# Altium schematic symbol library RF_Module.SchLib: 84 symbols (part 2 of 2)
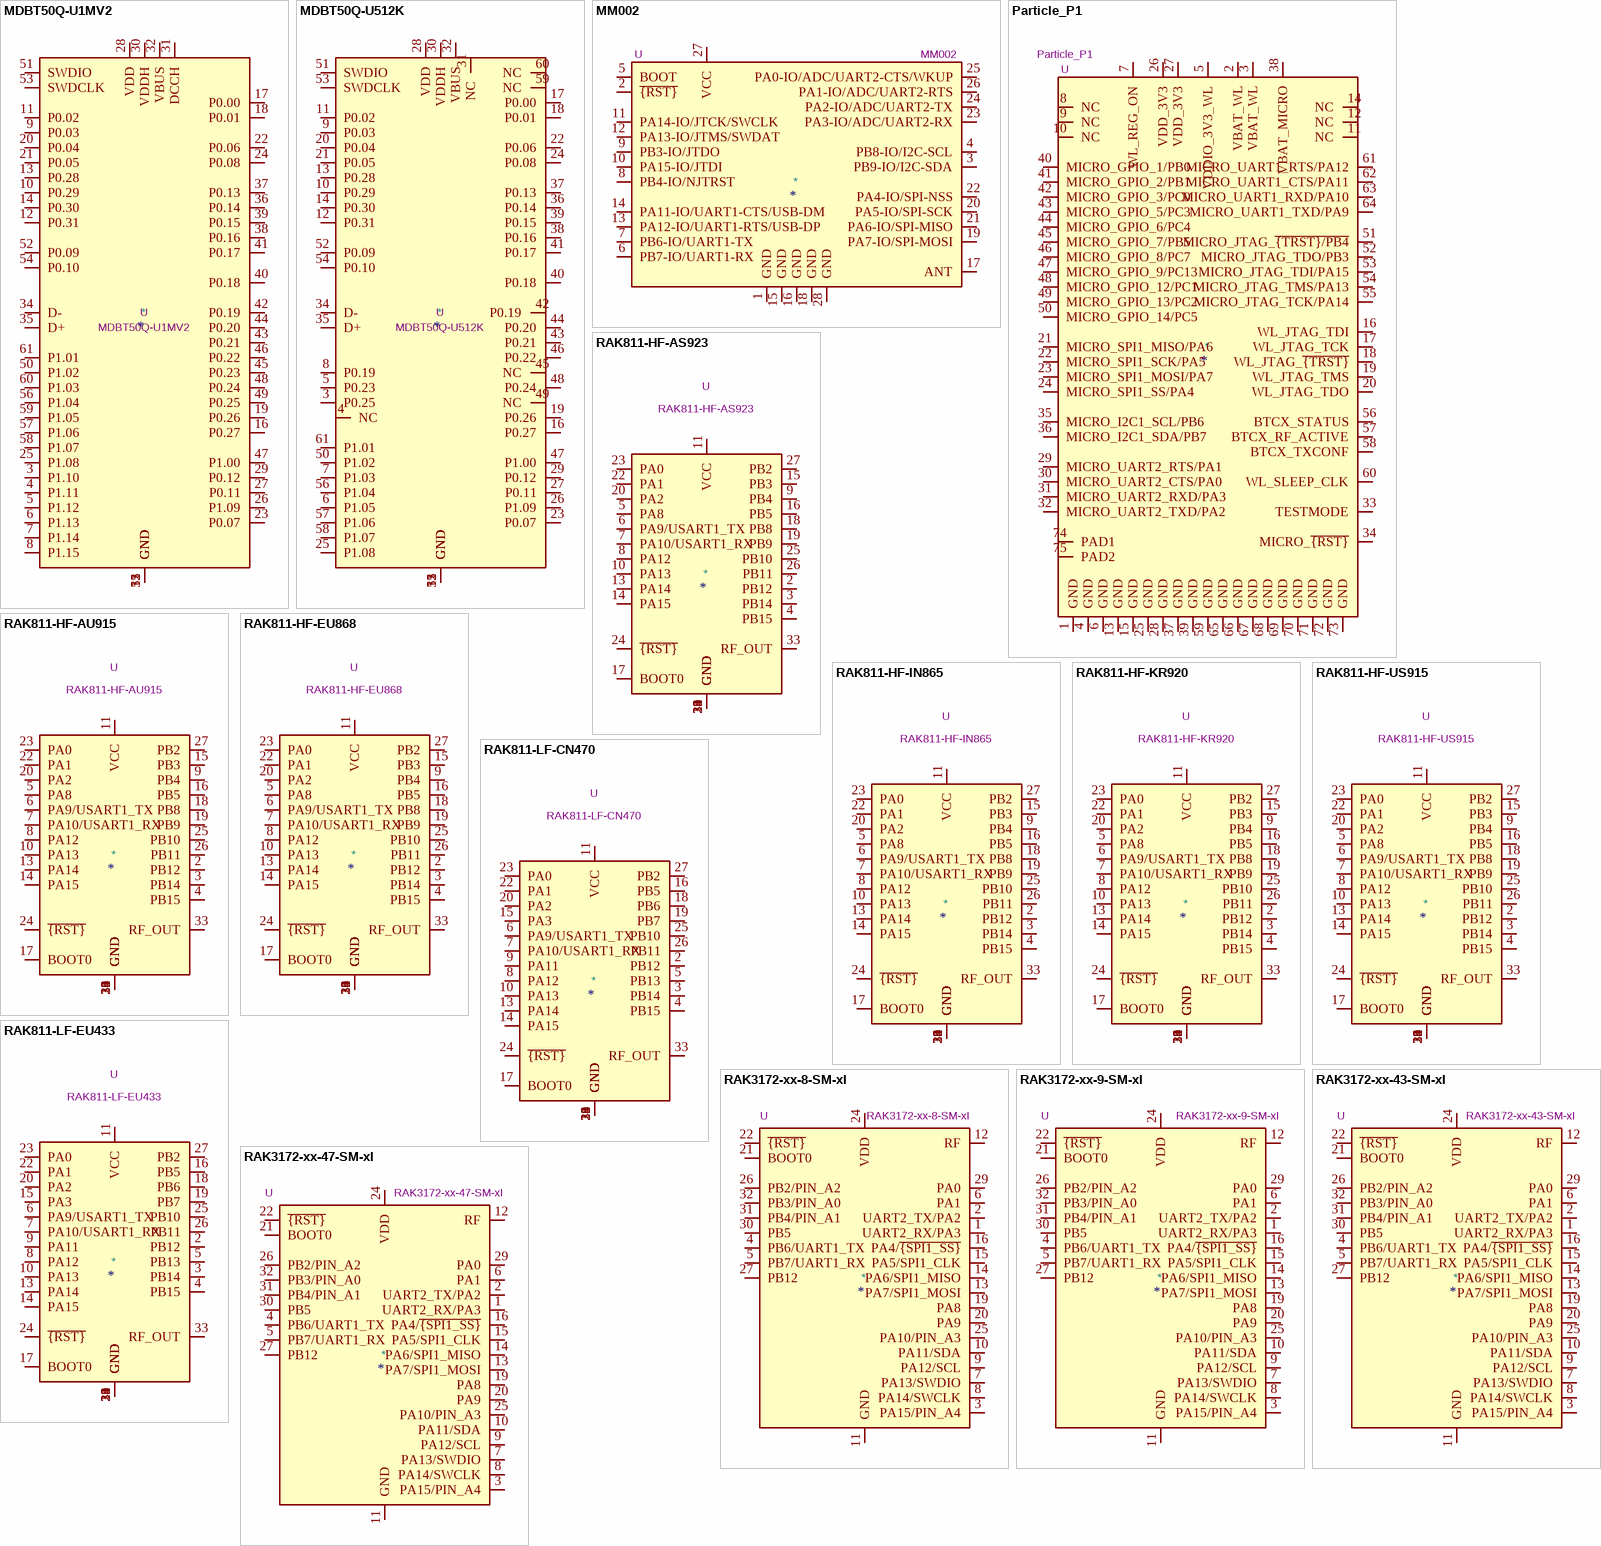
[diagram p5: symbols MDBT50Q-U1MV2 to RAK3172-xx-47-SM-xI]

## RAK3172-xx-43-SM-xI
designator *  value RAK3172-xx-43-SM-xI  Reference: U
LoRa Module, STM32WLE5, EU433, RAKwireless; ki_keywords: IoT LoRa LoRaWAN RF; ki_fp_filters: RAK3172*; Footprint: RF_Module:RAK3172; Datasheet: https://docs.rakwireless.com/product-categories/wisduo/rak3172-module/datasheet; Description_: LoRa Module, STM32WLE5, EU433, RAKwireless
pins: 1 UART2_RX/PA3, 2 UART2_TX/PA2, 3 PA15/PIN_A4, 4 PB6/UART1_TX, 5 PB7/UART1_RX, 6 PA1, 7 PA13/SWDIO, 8 PA14/SWCLK, 9 PA12/SCL, 10 PA11/SDA, 11 GND, 12 RF, 13 PA7/SPI1_MOSI, 14 PA6/SPI1_MISO, 15 PA5/SPI1_CLK, 16 PA4/~{{SPI1_SS}}, 17 GND hidden, 18 GND hidden, 19 PA8, 20 PA9, 21 BOOT0, 22 ~{{RST}}, 23 GND hidden, 24 VDD, 25 PA10/PIN_A3, 26 PB2/PIN_A2, 27 PB12, 28 GND hidden, 29 PA0, 30 PB5, 31 PB4/PIN_A1, 32 PB3/PIN_A0

## RAK3172-xx-47-SM-xI
designator *  value RAK3172-xx-47-SM-xI  Reference: U
LoRa Module, STM32WLE5, CN470, RAKwireless; ki_keywords: IoT LoRa LoRaWAN RF; ki_fp_filters: RAK3172*; Footprint: RF_Module:RAK3172; Datasheet: https://docs.rakwireless.com/product-categories/wisduo/rak3172-module/datasheet; Description_: LoRa Module, STM32WLE5, CN470, RAKwireless
pins: 1 UART2_RX/PA3, 2 UART2_TX/PA2, 3 PA15/PIN_A4, 4 PB6/UART1_TX, 5 PB7/UART1_RX, 6 PA1, 7 PA13/SWDIO, 8 PA14/SWCLK, 9 PA12/SCL, 10 PA11/SDA, 11 GND, 12 RF, 13 PA7/SPI1_MOSI, 14 PA6/SPI1_MISO, 15 PA5/SPI1_CLK, 16 PA4/~{{SPI1_SS}}, 17 GND hidden, 18 GND hidden, 19 PA8, 20 PA9, 21 BOOT0, 22 ~{{RST}}, 23 GND hidden, 24 VDD, 25 PA10/PIN_A3, 26 PB2/PIN_A2, 27 PB12, 28 GND hidden, 29 PA0, 30 PB5, 31 PB4/PIN_A1, 32 PB3/PIN_A0

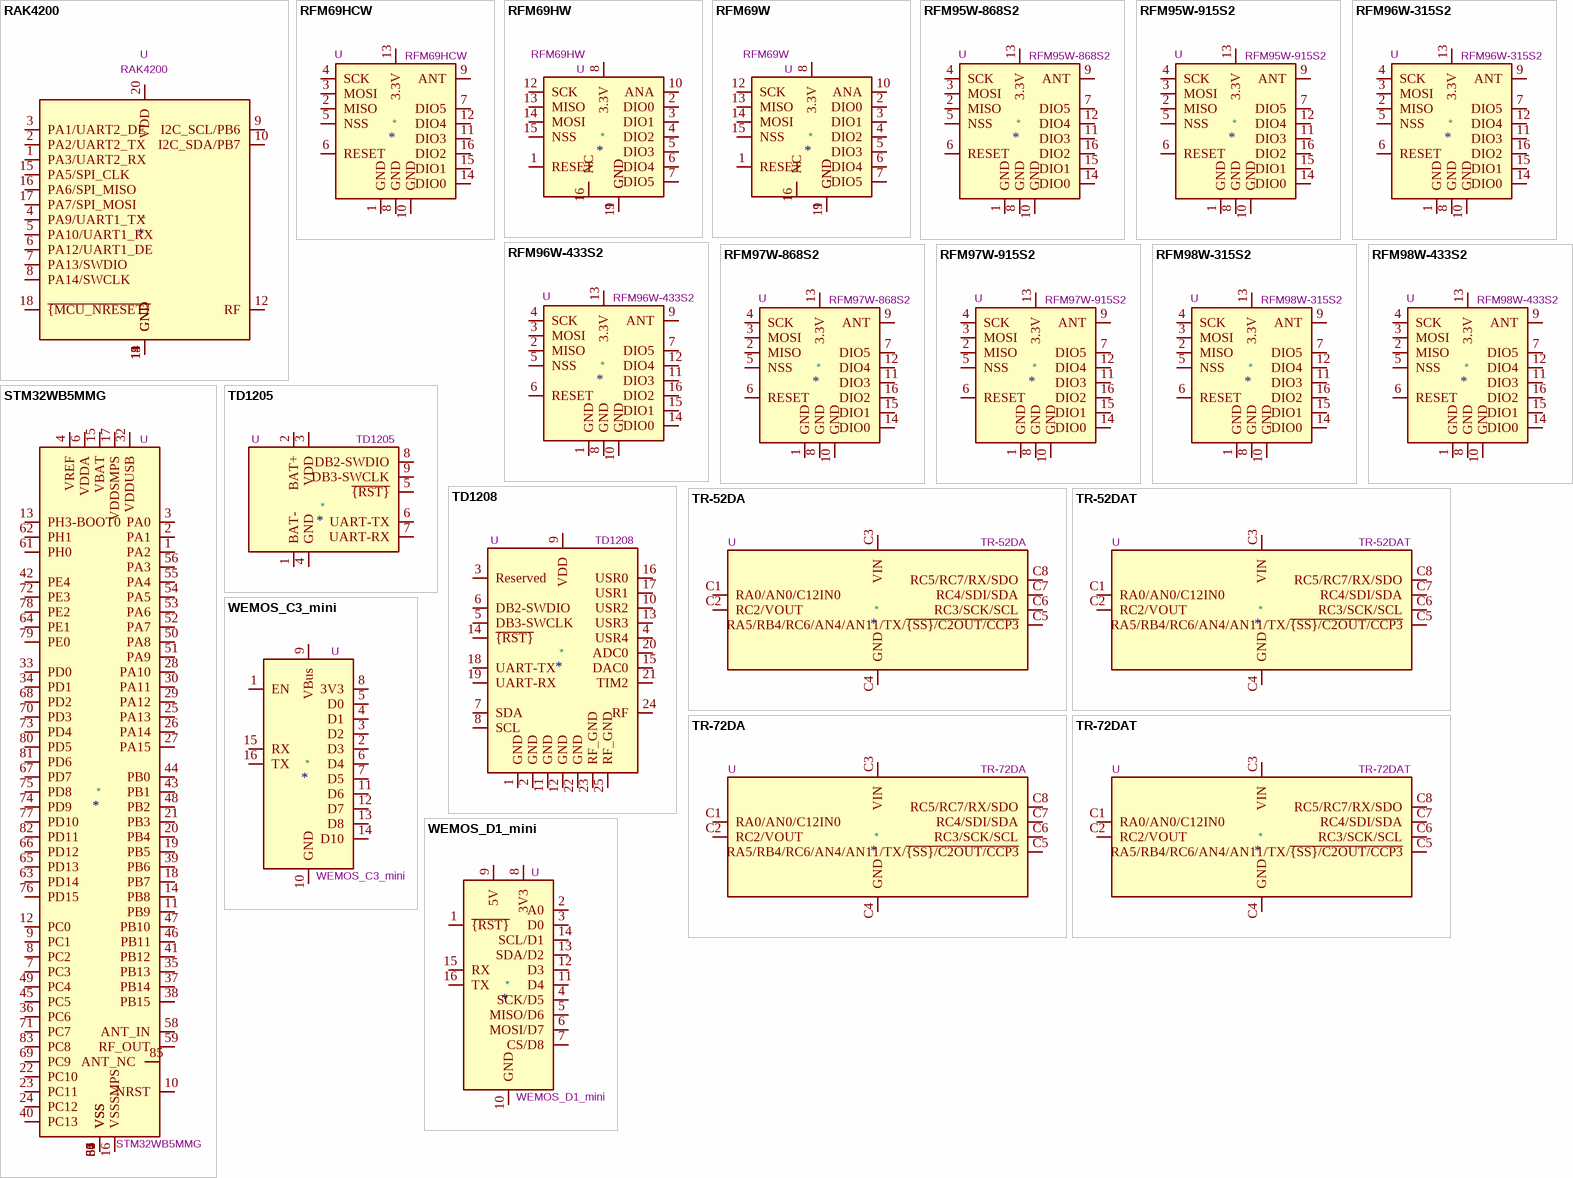
[diagram p4: symbols RAK4200 to WEMOS_D1_mini]

## RAK4200
designator *  value RAK4200  Reference: U
LoRa Module, STM32L071,  RAKwireless; ki_keywords: IoT, LoRa, LoRaWAN, RF; ki_fp_filters: RAK4200*; Footprint: RF_Module:RAK4200; Datasheet: https://downloads.rakwireless.com/LoRa/RAK4200/Hardware-Specification/RAK4200_Module_Specifications_V1.4.pdf; Description_: LoRa Module, STM32L071,  RAKwireless
pins: 1 PA3/UART2_RX, 2 PA2/UART2_TX, 3 PA1/UART2_DE, 4 PA9/UART1_TX, 5 PA10/UART1_RX, 6 PA12/UART1_DE, 7 PA13/SWDIO, 8 PA14/SWCLK, 9 I2C_SCL/PB6, 10 I2C_SDA/PB7, 11 GND, 12 RF, 13 GND, 14 GND, 15 PA5/SPI_CLK, 16 PA6/SPI_MISO, 17 PA7/SPI_MOSI, 18 ~{{MCU_NRESET}}, 19 GND, 20 VDD

## RFM69HCW
designator *  value RFM69HCW  Reference: U
Low power ISM Radio Transceiver Module, SPI interface, AES encryption, 434 or 915 MHz, up to 100mW, up to 300 kb/s, SMD-16, DIP-16; ki_keywords: low power Radio ISM Transceiver Module AES encryption SPI HopeRF; ki_fp_filters: HOPERF*RFM9XW*; Datasheet: https://www.hoperf.com/data/upload/portal/20181127/5bfcb8284d838.pdf; Description_: Low power ISM Radio Transceiver Module, SPI interface, AES encryption, 434 or 915 MHz, up to 100mW, up to 300 kb/s, SMD-16, DIP-16
pins: 1 GND, 2 MISO, 3 MOSI, 4 SCK, 5 NSS, 6 RESET, 7 DIO5, 8 GND, 9 ANT, 10 GND, 11 DIO3, 12 DIO4, 13 3.3V, 14 DIO0, 15 DIO1, 16 DIO2

## RFM69HW
designator *  value RFM69HW  Reference: U
ISM Radio Transceiver Module, SPI interface; ki_keywords: Radio ISM Transceiver Module AES; ki_fp_filters: HOPERF*RFM69HW*; Footprint: RF_Module:HOPERF_RFM69HW; Datasheet: https://www.hoperf.com/data/upload/portal/20181127/5bfcbb56f1fd7.pdf; Description_: ISM Radio Transceiver Module, SPI interface
pins: 1 RESET, 2 DIO0, 3 DIO1, 4 DIO2, 5 DIO3, 6 DIO4, 7 DIO5, 8 3.3V, 9 GND, 10 ANA, 11 GND, 12 SCK, 13 MISO, 14 MOSI, 15 NSS, 16 NC

## RFM69W
designator *  value RFM69W  Reference: U
ISM Radio Transceiver Module, SPI interface; ki_keywords: Radio, ISM, Transceiver, Module, AES; ki_fp_filters: HOPERF*RFM69HW*; Footprint: RF_Module:HOPERF_RFM69HW; Datasheet: https://www.hoperf.com/data/upload/portal/20181127/5bfcbe34756e1.pdf; Description_: ISM Radio Transceiver Module, SPI interface
pins: 1 RESET, 2 DIO0, 3 DIO1, 4 DIO2, 5 DIO3, 6 DIO4, 7 DIO5, 8 3.3V, 9 GND, 10 ANA, 11 GND, 12 SCK, 13 MISO, 14 MOSI, 15 NSS, 16 NC

## RFM95W-868S2
designator *  value RFM95W-868S2  Reference: U
Low power long range transceiver module, SPI and parallel interface, 868 MHz, spreading factor 6 to12, bandwidth 7.8 to 500kHz, -111 to -148 dBm, SMD-16, DIP-16; ki_fp_filters: HOPERF*RFM9XW*; Datasheet: https://www.hoperf.com/data/upload/portal/20181127/5bfcbea20e9ef.pdf; Description_: Low power long range transceiver module, SPI and parallel interface, 868 MHz, spreading factor 6 to12, bandwidth 7.8 to 500kHz, -111 to -148 dBm, SMD-16, DIP-16; ki_keywords: Low power long range transceiver module
pins: 1 GND, 2 MISO, 3 MOSI, 4 SCK, 5 NSS, 6 RESET, 7 DIO5, 8 GND, 9 ANT, 10 GND, 11 DIO3, 12 DIO4, 13 3.3V, 14 DIO0, 15 DIO1, 16 DIO2

## RFM95W-915S2
designator *  value RFM95W-915S2  Reference: U
Low power long range transceiver module, SPI and parallel interface, 915 MHz, spreading factor 6 to12, bandwidth 7.8 to 500kHz, -111 to -148 dBm, SMD-16, DIP-16; ki_fp_filters: HOPERF*RFM9XW*; Datasheet: https://www.hoperf.com/data/upload/portal/20181127/5bfcbea20e9ef.pdf; Description_: Low power long range transceiver module, SPI and parallel interface, 915 MHz, spreading factor 6 to12, bandwidth 7.8 to 500kHz, -111 to -148 dBm, SMD-16, DIP-16; ki_keywords: Low power long range transceiver module
pins: 1 GND, 2 MISO, 3 MOSI, 4 SCK, 5 NSS, 6 RESET, 7 DIO5, 8 GND, 9 ANT, 10 GND, 11 DIO3, 12 DIO4, 13 3.3V, 14 DIO0, 15 DIO1, 16 DIO2

## RFM96W-315S2
designator *  value RFM96W-315S2  Reference: U
Low power long range transceiver module, SPI and parallel interface, 315 MHz, spreading factor 6 to12, bandwidth 7.8 to 500kHz, -111 to -148 dBm, SMD-16, DIP-16; ki_fp_filters: HOPERF*RFM9XW*; Datasheet: https://www.hoperf.com/data/upload/portal/20181127/5bfcc0ac60235.pdf; Description_: Low power long range transceiver module, SPI and parallel interface, 315 MHz, spreading factor 6 to12, bandwidth 7.8 to 500kHz, -111 to -148 dBm, SMD-16, DIP-16; ki_keywords: Low power long range transceiver module
pins: 1 GND, 2 MISO, 3 MOSI, 4 SCK, 5 NSS, 6 RESET, 7 DIO5, 8 GND, 9 ANT, 10 GND, 11 DIO3, 12 DIO4, 13 3.3V, 14 DIO0, 15 DIO1, 16 DIO2

## RFM96W-433S2
designator *  value RFM96W-433S2  Reference: U
Low power long range transceiver module, SPI and parallel interface, 433 MHz, spreading factor 6 to12, bandwidth 7.8 to 500kHz, -111 to -148 dBm, SMD-16, DIP-16; ki_fp_filters: HOPERF*RFM9XW*; Datasheet: https://www.hoperf.com/data/upload/portal/20181127/5bfcc0ac60235.pdf; Description_: Low power long range transceiver module, SPI and parallel interface, 433 MHz, spreading factor 6 to12, bandwidth 7.8 to 500kHz, -111 to -148 dBm, SMD-16, DIP-16; ki_keywords: Low power long range transceiver module
pins: 1 GND, 2 MISO, 3 MOSI, 4 SCK, 5 NSS, 6 RESET, 7 DIO5, 8 GND, 9 ANT, 10 GND, 11 DIO3, 12 DIO4, 13 3.3V, 14 DIO0, 15 DIO1, 16 DIO2

## RFM97W-868S2
designator *  value RFM97W-868S2  Reference: U
Low power long range transceiver module, SPI and parallel interface, 868 MHz, spreading factor 6 to12, bandwidth 7.8 to 500kHz, -111 to -139 dBm, SMD-16, DIP-16; ki_fp_filters: HOPERF*RFM9XW*; Datasheet: https://www.hoperf.com/data/upload/portal/20181127/5bfcbea20e9ef.pdf; Description_: Low power long range transceiver module, SPI and parallel interface, 868 MHz, spreading factor 6 to12, bandwidth 7.8 to 500kHz, -111 to -139 dBm, SMD-16, DIP-16; ki_keywords: Low power long range transceiver module
pins: 1 GND, 2 MISO, 3 MOSI, 4 SCK, 5 NSS, 6 RESET, 7 DIO5, 8 GND, 9 ANT, 10 GND, 11 DIO3, 12 DIO4, 13 3.3V, 14 DIO0, 15 DIO1, 16 DIO2

## RFM97W-915S2
designator *  value RFM97W-915S2  Reference: U
Low power long range transceiver module, SPI and parallel interface, 915 MHz, spreading factor 6 to12, bandwidth 7.8 to 500kHz, -111 to -139 dBm, SMD-16, DIP-16; ki_fp_filters: HOPERF*RFM9XW*; Datasheet: https://www.hoperf.com/data/upload/portal/20181127/5bfcbea20e9ef.pdf; Description_: Low power long range transceiver module, SPI and parallel interface, 915 MHz, spreading factor 6 to12, bandwidth 7.8 to 500kHz, -111 to -139 dBm, SMD-16, DIP-16; ki_keywords: Low power long range transceiver module
pins: 1 GND, 2 MISO, 3 MOSI, 4 SCK, 5 NSS, 6 RESET, 7 DIO5, 8 GND, 9 ANT, 10 GND, 11 DIO3, 12 DIO4, 13 3.3V, 14 DIO0, 15 DIO1, 16 DIO2

## RFM98W-315S2
designator *  value RFM98W-315S2  Reference: U
Low power long range transceiver module, SPI and parallel interface, 315 MHz, spreading factor 6 to12, bandwidth 7.8 to 500kHz, -111 to -148 dBm, SMD-16, DIP-16; ki_fp_filters: HOPERF*RFM9XW*; Datasheet: https://www.hoperf.com/data/upload/portal/20181127/5bfcdb5e17543.pdf; Description_: Low power long range transceiver module, SPI and parallel interface, 315 MHz, spreading factor 6 to12, bandwidth 7.8 to 500kHz, -111 to -148 dBm, SMD-16, DIP-16; ki_keywords: Low power long range transceiver module
pins: 1 GND, 2 MISO, 3 MOSI, 4 SCK, 5 NSS, 6 RESET, 7 DIO5, 8 GND, 9 ANT, 10 GND, 11 DIO3, 12 DIO4, 13 3.3V, 14 DIO0, 15 DIO1, 16 DIO2

## RFM98W-433S2
designator *  value RFM98W-433S2  Reference: U
Low power long range transceiver module, SPI and parallel interface, 433 MHz, spreading factor 6 to12, bandwidth 7.8 to 500kHz, -111 to -148 dBm, SMD-16, DIP-16; ki_fp_filters: HOPERF*RFM9XW*; Datasheet: https://www.hoperf.com/data/upload/portal/20181127/5bfcdb5e17543.pdf; Description_: Low power long range transceiver module, SPI and parallel interface, 433 MHz, spreading factor 6 to12, bandwidth 7.8 to 500kHz, -111 to -148 dBm, SMD-16, DIP-16; ki_keywords: Low power long range transceiver module
pins: 1 GND, 2 MISO, 3 MOSI, 4 SCK, 5 NSS, 6 RESET, 7 DIO5, 8 GND, 9 ANT, 10 GND, 11 DIO3, 12 DIO4, 13 3.3V, 14 DIO0, 15 DIO1, 16 DIO2

## STM32WB5MMG
designator *  value STM32WB5MMG  Reference: U
ST Microelectronics STM32WB55VG ARM Cortex Bluetooth Low Energy 5.0, Zigbee and 802.15.4 module, 1 MB Flash, 256kb RAM, Fully integrated BOM; ki_keywords: bluetooth bluetooth5 bluetooth5.0 802.15.4 zigbee module stm32 rf ARM Cortex-M3 Cortex-M0+; ki_fp_filters: RF?Module:ST?SiP?LGA?86?11x7.3mm*; Footprint: RF_Module:ST-SiP-LGA-86-11x7.3mm; Datasheet: https://www.st.com/resource/en/datasheet/stm32wb5mmg.pdf; Description_: ST Microelectronics STM32WB55VG ARM Cortex Bluetooth Low Energy 5.0, Zigbee and 802.15.4 module, 1 MB Flash, 256kb RAM, Fully integrated BOM
pins: 1 PA2, 2 PA1, 3 PA0, 4 VREF, 5 VSS, 6 VDDA, 7 PC3, 8 PC2, 9 PC1, 10 NRST, 11 PB9, 12 PC0, 13 PH3-BOOT0, 14 PB8, 15 VBAT, 16 VSSSMPS, 17 VDDSMPS, 18 PB7, 19 PB5, 20 PB4, 21 PB3, 22 PC10, 23 PC11, 24 PC12, 25 PA13, 26 PA14, 27 PA15, 28 PA10, 29 PA12, 30 PA11, 31 VSS, 32 VDDUSB, 33 PD0, 34 PD1, 35 PB13, 36 PC6, 37 PB14, 38 PB15, 39 PB6, 40 PC13, 41 PB12, 42 PE4, 43 PB1, 44 PB0, 45 PC5, 46 PB11, 47 PB10, 48 PB2, 49 PC4, 50 PA8, 51 PA9, 52 PA7, 53 PA6, 54 PA5, 55 PA4, 56 PA3, 57 VSS, 58 ANT_IN, 59 RF_OUT, 60 VSS, 61 PH0, 62 PH1, 63 PD14, 64 PE1, 65 PD13, 66 PD12, 67 PD7, 68 PD2, 69 PC9, 70 PD3, 71 PC7, 72 PE3, 73 PD4, 74 PD9, 75 PD8, 76 PD15, 77 PD10, 78 PE2, 79 PE0, 80 PD5, 81 PD6, 82 PD11, 83 PC8, 84 VSS, 85 ANT_NC, 86 VSS

## TD1205
designator *  value TD1205  Reference: U
High-Performance, Low-Current SIGFOX™ Gateway And GPS Receiver With Integrated Antennas; ki_keywords: IOT SIGFOX GPS; ki_fp_filters: TD1205*; Footprint: RF_Module:TD1205; Datasheet: https://github.com/Telecom-Design/Documentation_TD_RF_Module/blob/master/TD1205%20Datasheet.pdf; Description_: High-Performance, Low-Current SIGFOX™ Gateway And GPS Receiver With Integrated Antennas
pins: 1 BAT-, 2 BAT+, 3 VDD, 4 GND, 5 ~{{RST}}, 6 UART-TX, 7 UART-RX, 8 DB2-SWDIO, 9 DB3-SWCLK

## TD1208
designator *  value TD1208  Reference: U
High-Performance, Low-Current SIGFOX™ Gateway; ki_keywords: IOT SIGFOX; ki_fp_filters: TD1208*; Footprint: RF_Module:TD1208; Datasheet: https://github.com/Telecom-Design/Documentation_TD_RF_Module/blob/master/TD1208%20Datasheet.pdf; Description_: High-Performance, Low-Current SIGFOX™ Gateway
pins: 1 GND, 2 GND, 3 Reserved, 4 USR4, 5 DB3-SWCLK, 6 DB2-SWDIO, 7 SDA, 8 SCL, 9 VDD, 10 USR2, 11 GND, 12 GND, 13 USR3, 14 ~{{RST}}, 15 DAC0, 16 USR0, 17 USR1, 18 UART-TX, 19 UART-RX, 20 ADC0, 21 TIM2, 22 GND, 23 RF_GND, 24 RF, 25 RF_GND

## TR-52DA
designator *  value TR-52DA  Reference: U
IQRF common transceiver with PCB antenna, FSK modulation; ki_keywords: IQRF common transceiver, PCB antenna, FSK modulation; ki_fp_filters: IQRF?TRx2DA?KON?SIM?01*; Footprint: RF_Module:IQRF_TRx2DA_KON-SIM-01; Datasheet: https://iqrf.org/weben/downloads.php?id=213; Description_: IQRF common transceiver with PCB antenna, FSK modulation
pins: C1 RA0/AN0/C12IN0, C2 RC2/VOUT, C3 VIN, C4 GND, C5 RA5/RB4/RC6/AN4/AN11/TX/~{{SS}/C2OUT/CCP3}, C6 RC3/SCK/SCL, C7 RC4/SDI/SDA, C8 RC5/RC7/RX/SDO

## TR-52DAT
designator *  value TR-52DAT  Reference: U
IQRF common transceiver with PCB antenna and thermometer, FSK modulation; ki_keywords: IQRF common transceiver, PCB antenna, thermometer, FSK modulation; ki_fp_filters: IQRF?TRx2DA?KON?SIM?01*; Footprint: RF_Module:IQRF_TRx2DA_KON-SIM-01; Datasheet: https://iqrf.org/weben/downloads.php?id=213; Description_: IQRF common transceiver with PCB antenna and thermometer, FSK modulation
pins: C1 RA0/AN0/C12IN0, C2 RC2/VOUT, C3 VIN, C4 GND, C5 RA5/RB4/RC6/AN4/AN11/TX/~{{SS}/C2OUT/CCP3}, C6 RC3/SCK/SCL, C7 RC4/SDI/SDA, C8 RC5/RC7/RX/SDO

## TR-72DA
designator *  value TR-72DA  Reference: U
IQRF transceiver with PCB antenna, GMSK modulation; ki_keywords: IQRF transceiver, PCB antenna, GMSK modulation; ki_fp_filters: IQRF?TRx2DA?KON?SIM?01*; Footprint: RF_Module:IQRF_TRx2DA_KON-SIM-01; Datasheet: https://iqrf.org/weben/downloads.php?id=337; Description_: IQRF transceiver with PCB antenna, GMSK modulation
pins: C1 RA0/AN0/C12IN0, C2 RC2/VOUT, C3 VIN, C4 GND, C5 RA5/RB4/RC6/AN4/AN11/TX/~{{SS}/C2OUT/CCP3}, C6 RC3/SCK/SCL, C7 RC4/SDI/SDA, C8 RC5/RC7/RX/SDO

## TR-72DAT
designator *  value TR-72DAT  Reference: U
IQRF transceiver with PCB antenna and thermometer, GMSK modulation; ki_keywords: IQRF transceiver, PCB antenna, thermometer, GMSK modulation; ki_fp_filters: IQRF?TRx2DA?KON?SIM?01*; Footprint: RF_Module:IQRF_TRx2DA_KON-SIM-01; Datasheet: https://iqrf.org/weben/downloads.php?id=337; Description_: IQRF transceiver with PCB antenna and thermometer, GMSK modulation
pins: C1 RA0/AN0/C12IN0, C2 RC2/VOUT, C3 VIN, C4 GND, C5 RA5/RB4/RC6/AN4/AN11/TX/~{{SS}/C2OUT/CCP3}, C6 RC3/SCK/SCL, C7 RC4/SDI/SDA, C8 RC5/RC7/RX/SDO

## WEMOS_C3_mini
designator *  value WEMOS_C3_mini  Reference: U
32-bit microcontroller module with WiFi; ki_keywords: ESP32-C3; ki_fp_filters: WEMOS*C3*mini*; Footprint: RF_Module:WEMOS_C3_mini; Datasheet: https://www.wemos.cc/en/latest/c3/c3_mini.html; Description_: 32-bit microcontroller module with WiFi
pins: 1 EN, 2 D3, 3 D2, 4 D1, 5 D0, 6 D4, 7 D5, 8 3V3, 9 VBus, 10 GND, 11 D6, 12 D7, 13 D8, 14 D10, 15 RX, 16 TX

## WEMOS_D1_mini
designator *  value WEMOS_D1_mini  Reference: U
32-bit microcontroller module with WiFi; ki_keywords: ESP8266 WiFi microcontroller ESP8266EX; ki_fp_filters: WEMOS*D1*mini*; Footprint: RF_Module:WEMOS_D1_mini_light; Datasheet: https://wiki.wemos.cc/products:d1:d1_mini#documentation; Description_: 32-bit microcontroller module with WiFi
pins: 1 ~{{RST}}, 2 A0, 3 D0, 4 SCK/D5, 5 MISO/D6, 6 MOSI/D7, 7 CS/D8, 8 3V3, 9 5V, 10 GND, 11 D4, 12 D3, 13 SDA/D2, 14 SCL/D1, 15 RX, 16 TX